# Altium footprint library XCAR-3.PcbLib: 14 footprints
Each footprint in its own frame and in the unit in brackets; x right, y up, seen from the top. Pads: shape width x height; smd on the part's side, far side on the other; paste and mask are expansions set on the pad; w line width, h text height; cw(c..) or ccw(c..) is an arc to the next point about the centre after c.
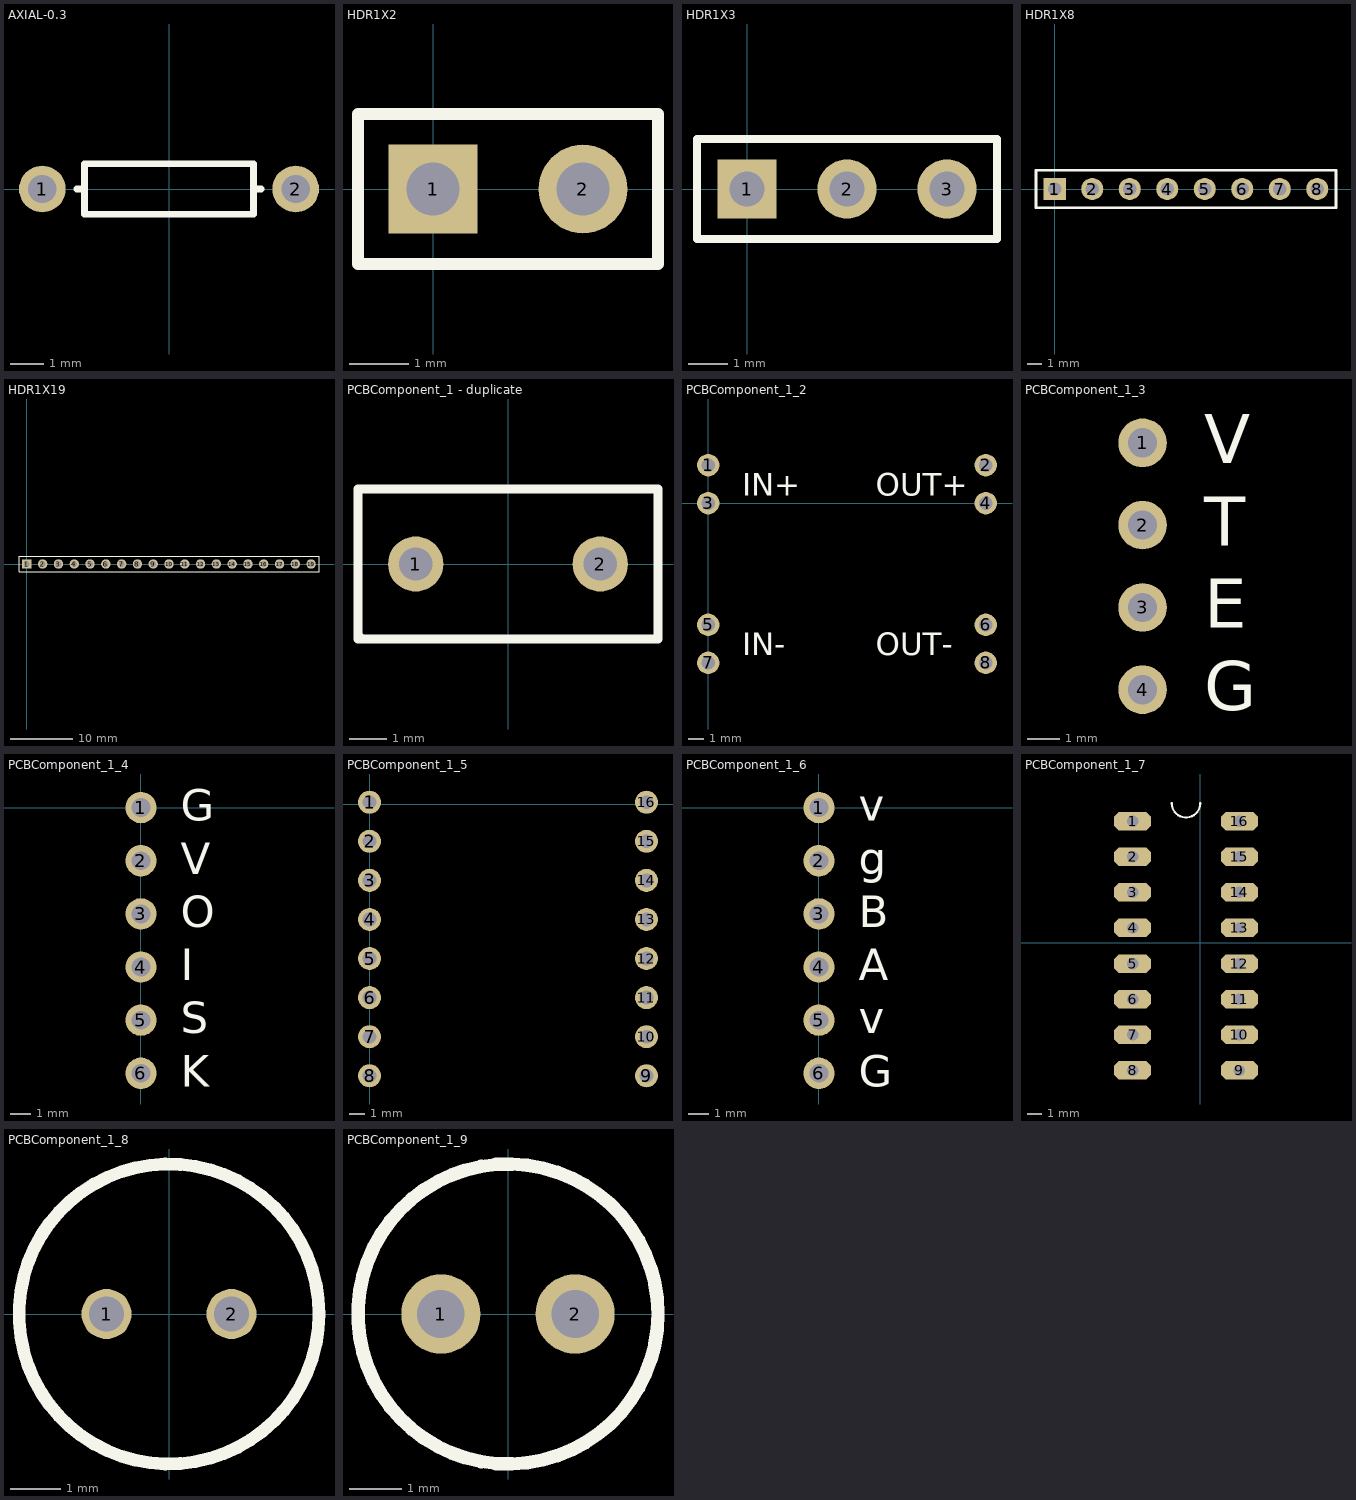
[diagram p0: the footprints below, top view; thin cyan lines are the x and y axes]

## AXIAL-0.3 [mm] "Axial Device, Thru-Hole; 2 Leads; 0.3 in Pin Spacing"
height 1.524
pads (2):
  round 1.4 hole 0.85: 1(-3.81,0) 2(3.81,0)
Top Overlay:
  lines w0.2: -2.769,0 -2.54,0 ; 2.769,0 2.54,0 ; 2.54,0 2.54,0.762 -2.54,0.762 -2.54,-0.762 2.54,-0.762 2.54,0

## HDR1X2 [mm] "Connector; Header; 2 Position"
pads (2):
  rect 1.5x1.5 hole 0.9: 1(0,0)
  round 1.5 hole 0.9: 2(2.54,0)
Top Overlay:
  lines w0.2: -1.27,-1.27 -1.27,1.27 3.81,1.27 3.81,-1.27 -1.27,-1.27

## HDR1X3 [mm] "Connector; Header; 3 Position"
pads (3):
  rect 1.5x1.5 hole 0.9: 1(0,0)
  round 1.5 hole 0.9: 2(2.54,0) 3(5.08,0)
Top Overlay:
  lines w0.2: -1.27,-1.27 -1.27,1.27 6.35,1.27 6.35,-1.27 -1.27,-1.27

## HDR1X8 [mm] "Connector; Header; 8 Position"
pads (8):
  rect 1.5x1.5 hole 0.9: 1(0,0)
  round 1.5 hole 0.9: 2(2.54,0) 3(5.08,0) 4(7.62,0) 5(10.16,0) 6(12.7,0) 7(15.24,0) 8(17.78,0)
Top Overlay:
  lines w0.2: -1.27,-1.27 -1.27,1.27 19.05,1.27 19.05,-1.27 -1.27,-1.27

## HDR1X19 [mm] "Connector; Header; 19 Position"
pads (19):
  rect 1.5x1.5 hole 0.9: 1(0,0)
  round 1.5 hole 0.9: 2(2.54,0) 3(5.08,0) 4(7.62,0) 5(10.16,0) 6(12.7,0) 7(15.24,0) 8(17.78,0) 9(20.32,0) 10(22.86,0) 11(25.4,0) 12(27.94,0) 13(30.48,0) 14(33.02,0) 15(35.56,0) 16(38.1,0) 17(40.64,0) 18(43.18,0) 19(45.72,0)
Top Overlay:
  lines w0.2: 37.465,1.27 37.677,1.27 ; -1.27,-1.27 -1.27,1.27 0.635,1.27 46.99,1.27 46.99,-1.27 -1.27,-1.27

## PCBComponent_1 - duplicate [mm]
pads (2):
  round 1.5 hole 0.9: 1(-2.5,0) 2(2.5,0)
Top Overlay:
  lines w0.254: -4.064,-1.936 -4,-2 ; -4.064,-2.032 -4.064,2.032 4.064,2.032 4.064,-2.032 -4.064,-2.032

## PCBComponent_1_2 [mm]
pads (8):
  round 1.5 hole 0.9: 1(0,2.54) 2(18.542,2.54) 3(0,0) 4(18.542,0) 5(0,-8.128) 6(18.542,-8.128) 7(0,-10.668) 8(18.542,-10.668)
Top Overlay:
  text "OUT-" at 11.176,-10.16 h1.52
  text "OUT+" at 11.176,0.508 h1.52
  text "IN+" at 2.286,0.508 h1.52
  text "IN-" at 2.286,-10.16 h1.52

## PCBComponent_1_3 [mm]
pads (4):
  round 1.5 hole 0.9: 1(12.7,12.7) 2(12.7,10.16) 3(12.7,7.62) 4(12.7,5.08)
Top Overlay:
  text "G" at 14.605,4.445 h1.52
  text "E" at 14.605,6.985 h1.52
  text "T" at 14.605,9.525 h1.52
  text "V" at 14.605,12.065 h1.52

## PCBComponent_1_4 [mm]
pads (6):
  round 1.5 hole 0.9: 1(0,0) 2(0,-2.54) 3(0,-5.08) 4(0,-7.62) 5(0,-10.16) 6(0,-12.7)
Top Overlay:
  text "K" at 1.905,-13.335 h1.52
  text "S" at 1.905,-10.795 h1.52
  text "I" at 1.905,-8.255 h1.52
  text "O" at 1.905,-5.715 h1.52
  text "V" at 1.905,-3.175 h1.52
  text "G" at 1.905,-0.635 h1.52

## PCBComponent_1_5 [mm]
pads (16):
  round 1.5 hole 0.9: 1(0,0.127) 2(0,-2.413) 3(0,-4.953) 4(0,-7.493) 5(0,-10.033) 6(0,-12.573) 7(0,-15.113) 8(0,-17.653) 9(18,-17.653) 10(18,-15.113) 11(18,-12.573) 12(18,-10.033) 13(18,-7.493) 14(18,-4.953) 15(18,-2.413) 16(18,0.127)

## PCBComponent_1_6 [mm]
pads (6):
  round 1.5 hole 0.9: 1(0,0) 2(0,-2.54) 3(0,-5.08) 4(0,-7.62) 5(0,-10.16) 6(0,-12.7)
Top Overlay:
  text "v" at 1.905,-0.635 h1.52
  text "g" at 1.905,-3.175 h1.52
  text "B" at 1.905,-5.715 h1.52
  text "A" at 1.905,-8.255 h1.52
  text "v" at 1.905,-10.795 h1.52
  text "G" at 1.905,-13.335 h1.52

## PCBComponent_1_7 [mil]
pads (16):
  oct 104x52 hole 32: 1(-190,342) 2(-190,242) 3(-190,142) 4(-190,42) 5(-190,-58) 6(-190,-158) 7(-190,-258) 8(-190,-358) 9(110,-358) 10(110,-258) 11(110,-158) 12(110,-58) 13(110,42) 14(110,142) 15(110,242) 16(110,342)
Top Overlay:
  lines w6: -80,392 ccw(c-40,392) 0,392

## PCBComponent_1_8 [mm]
pads (2):
  round 1 hole 0.7: 1(-1.25,0) 2(1.25,0)
Top Overlay:
  circle w0.254: c0,0 r3

## PCBComponent_1_9 [mm]
pads (2):
  round 1.5 hole 0.9: 1(-1.27,0) 2(1.27,0)
Top Overlay:
  circle w0.254: c0,0 r2.84